# Altium schematic symbol library Project.SchLib: 5 symbols
Pins are listed as number, name and electrical type; pins without a type are passive.

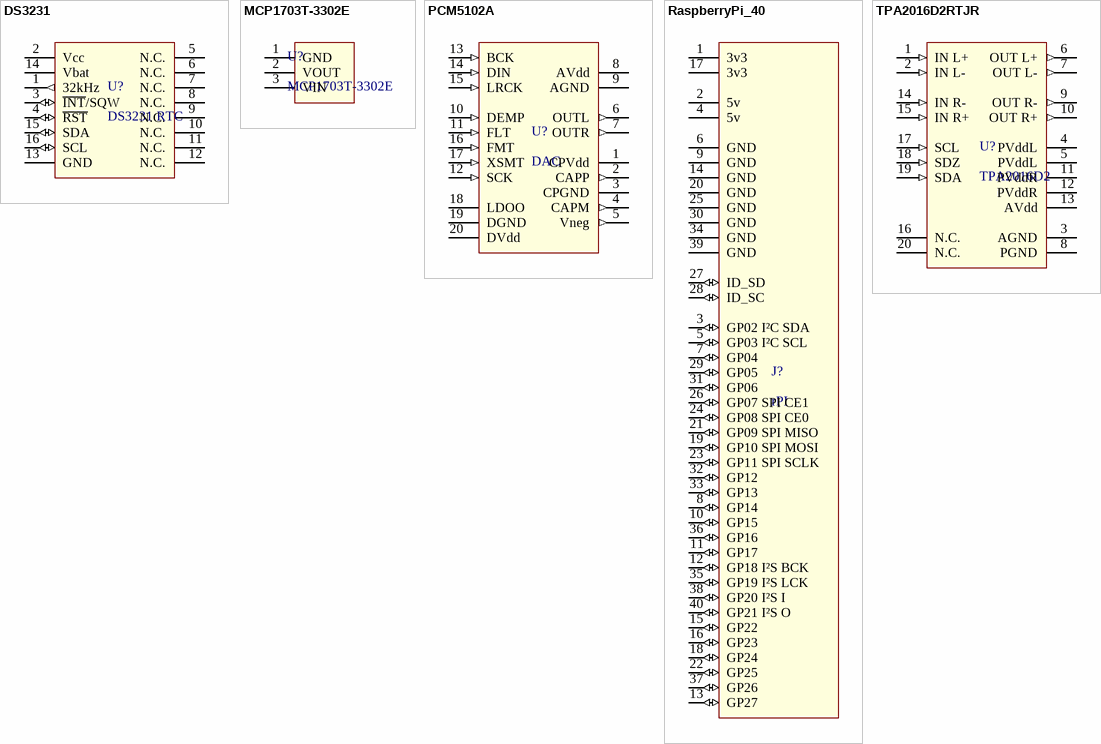
[diagram p0: symbols DS3231 to TPA2016D2RTJR]

## DS3231
designator U?, comment DS3231 RTC
RTC build in Xtal
pins: 1 32kHz (out), 2 Vcc (power), 3 ~{INT}/SQW (io), 4 ~{RST} (io), 5 N.C., 6 N.C., 7 N.C., 8 N.C., 9 N.C., 10 N.C., 11 N.C., 12 N.C., 13 GND (power), 14 Vbat (power), 15 SDA (io), 16 SCL (io)

## MCP1703T-3302E
designator U?
3v3 power reg
footprint SOT-23A
pins: 1 GND (power), 2 VOUT (power), 3 VIN (power)

## PCM5102A
designator U?, comment DAC
PCM5102A DAC
pins: 1 CPVdd (power), 2 CAPP (out), 3 CPGND, 4 CAPM (out), 5 Vneg (out), 6 OUTL (out), 7 OUTR (out), 8 AVdd (power), 9 AGND (power), 10 DEMP (in), 11 FLT (in), 12 SCK (in), 13 BCK (in), 14 DIN (in), 15 LRCK (in), 16 FMT (in), 17 XSMT (in), 18 LDOO, 19 DGND (power), 20 DVdd (power)

## RaspberryPi_40
designator J?, comment rPI
RaspberryPi 40 pin connector
pins: 1 3v3 (power), 2 5v (power), 3 GP02 I²C SDA (io), 4 5v (power), 5 GP03 I²C SCL (io), 6 GND (power), 7 GP04 (io), 8 GP14 (io), 9 GND (power), 10 GP15 (io), 11 GP17 (io), 12 GP18 I²S BCK (io), 13 GP27 (io), 14 GND (power), 15 GP22 (io), 16 GP23 (io), 17 3v3 (power), 18 GP24 (io), 19 GP10 SPI MOSI (io), 20 GND (power), 21 GP09 SPI MISO (io), 22 GP25 (io), 23 GP11 SPI SCLK (io), 24 GP08 SPI CE0 (io), 25 GND (power), 26 GP07 SPI CE1 (io), 27 ID_SD (io), 28 ID_SC (io), 29 GP05 (io), 30 GND (power), 31 GP06 (io), 32 GP12 (io), 33 GP13 (io), 34 GND (power), 35 GP19 I²S LCK (io), 36 GP16 (io), 37 GP26 (io), 38 GP20 I²S I (io), 39 GND (power), 40 GP21 I²S O (io)

## TPA2016D2RTJR
designator U?, comment TPA2016D2
I²C Controlled Audio Amplifier
pins: 1 IN L+ (in), 2 IN L- (in), 3 AGND (power), 4 PVddL (power), 5 PVddL (power), 6 OUT L+ (out), 7 OUT L- (out), 8 PGND (power), 9 OUT R- (out), 10 OUT R+ (out), 11 PVddR (power), 12 PVddR (power), 13 AVdd (power), 14 IN R- (in), 15 IN R+ (in), 16 N.C. (power), 17 SCL (in), 18 SDZ (in), 19 SDA (in), 20 N.C. (power)